# EAGLE library part ATTINY412 (library ATtiny ow V01)
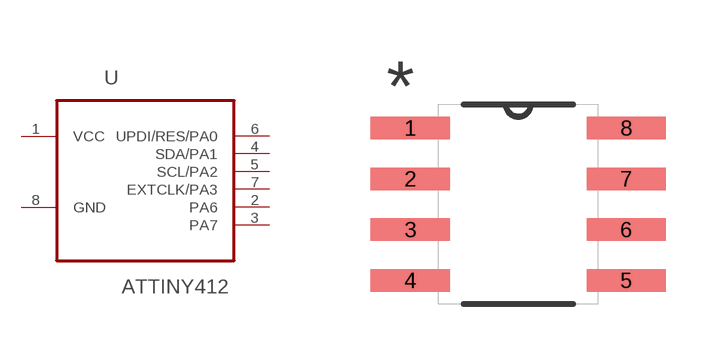
[diagram p2: symbol with the pads of SOIC127P600X175-8N; footprint SOIC127P600X175-8N]

Designator prefix -

## ATTINY412  [SOIC127P600X175-8N]
1  VCC  pwr
2  PA6
3  PA7
4  SDA/PA1
5  SCL/PA2
6  UPDI/RES/PA0
7  EXTCLK/PA3
8  GND  pas

## Footprint SOIC127P600X175-8N (pad centres in mm)
smd 1.981 x 0.559: 1 -2.7,1.905; 2 -2.7,0.635; 3 -2.7,-0.635; 4 -2.7,-1.905; 5 2.7,-1.905; 6 2.7,-0.635; 7 2.7,0.635; 8 2.7,1.905